# Altium footprint library VARISTOR_20MM.PcbLib: 1 footprints
Each footprint in its own frame and in the unit in brackets; x right, y up, seen from the top. Pads: shape width x height; smd on the part's side, far side on the other; paste and mask are expansions set on the pad; w line width, h text height; cw(c..) or ccw(c..) is an arc to the next point about the centre after c.
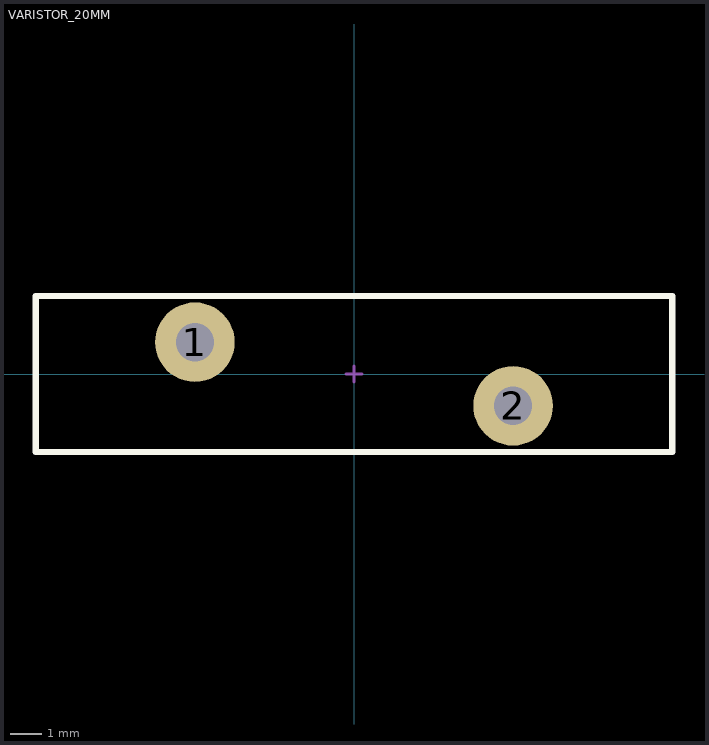
[diagram p0: the footprint, top view; thin cyan lines are the x and y axes]

## VARISTOR_20MM [mm]
height 0.55
pads (2):
  round 2.5 hole 1.2: 1(-5,1) 2(5,-1)
Top Overlay:
  lines w0.2: -10,-2.45 10,-2.45 10,2.45 -10,2.45 -10,-2.45
Top Assembly:
  lines w0.1: -0.25,0 0.25,0 ; 0,-0.25 0,0.25 ; -10,-2.45 10,-2.45 10,2.45 -10,2.45 -10,-2.45
  text "'.Designator'" at 0,0 h0.7
3D body "User Library-MOV, 130V, 20MM, 15KA, STRAIGHT LEAD, WPI VZ20E201KBSX-VBN.STEP": height 28.74, standoff 0, extent -10,-1.75 10,1.75